# Altium footprint library Lib_PCB_IFOG_Interrogator.PcbLib: 31 footprints (part 1 of 2)
Each footprint in its own frame and in the unit in brackets; x right, y up, seen from the top. Pads: shape width x height; smd on the part's side, far side on the other; paste and mask are expansions set on the pad; w line width, h text height; cw(c..) or ccw(c..) is an arc to the next point about the centre after c.
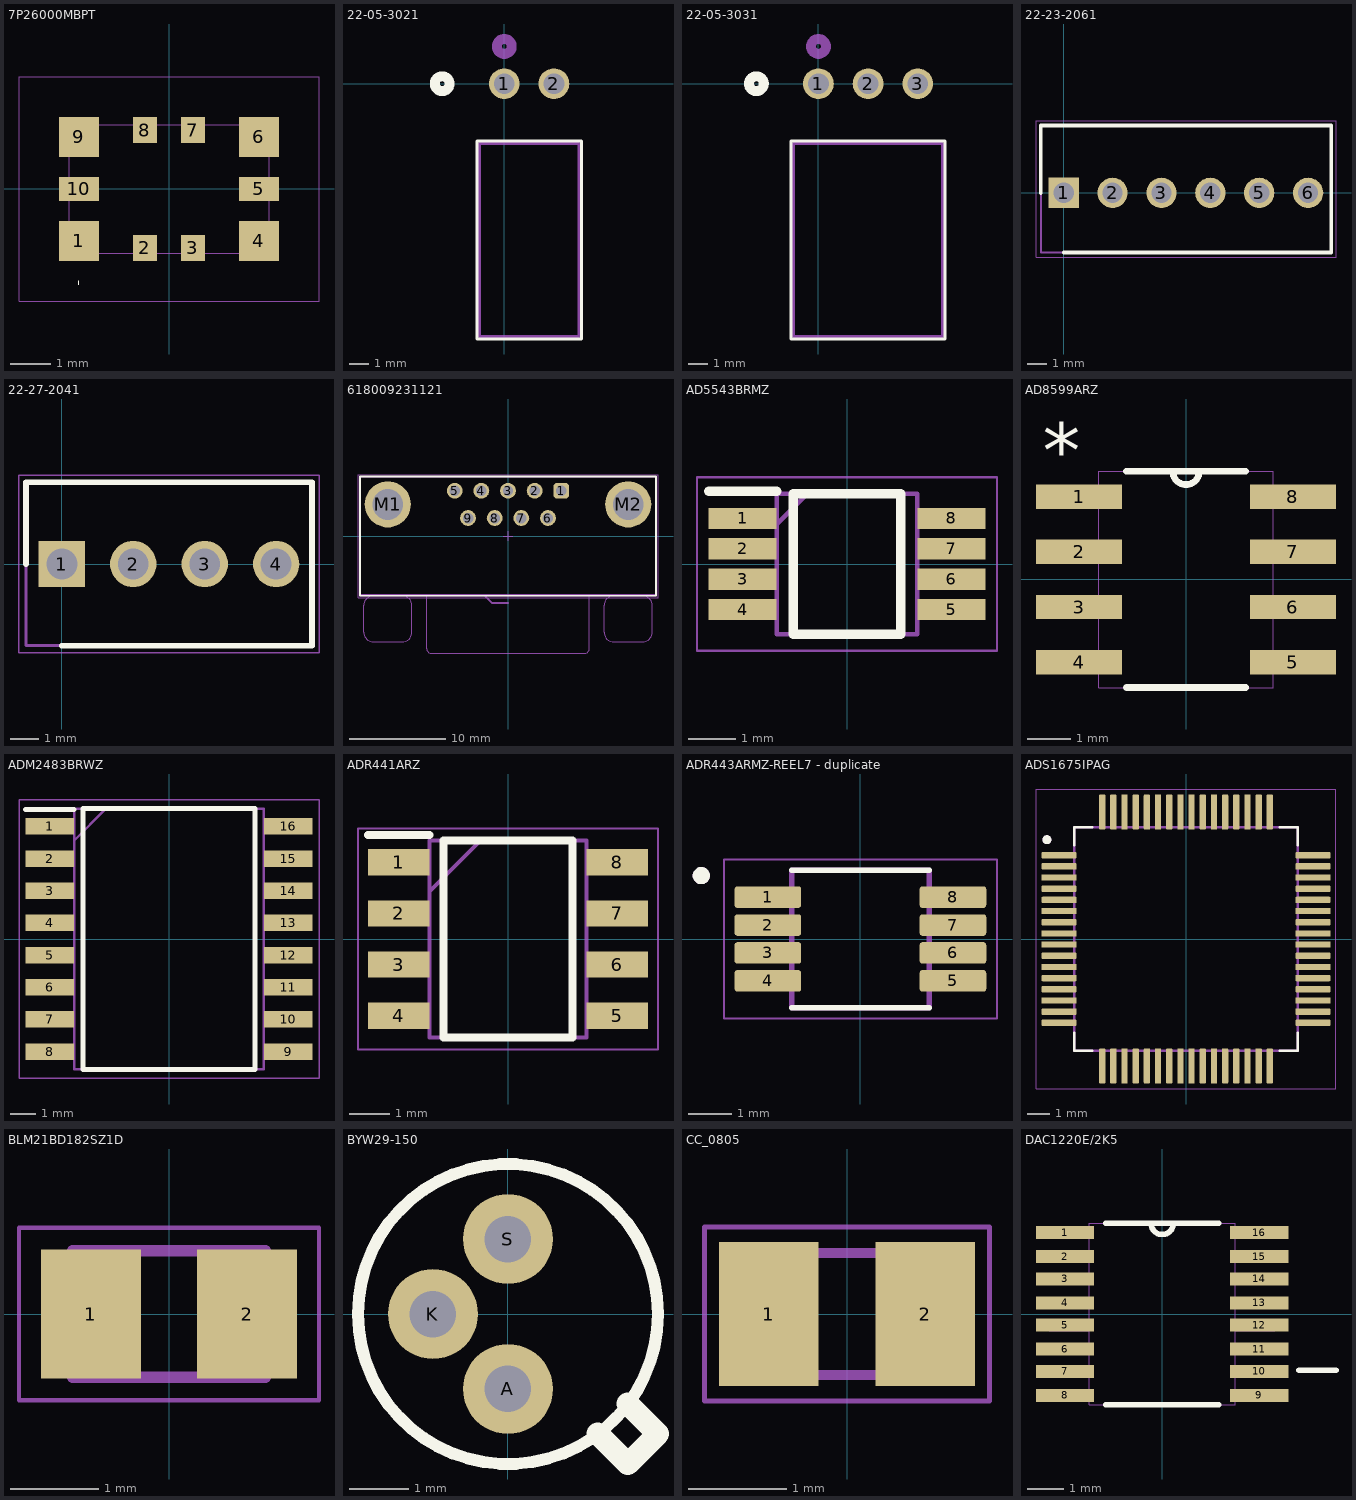
[diagram p0: the footprints below, top view; thin cyan lines are the x and y axes]

## 7P26000MBPT [mm]
pads (10):
  rect 1x1 smd paste+0 mask+0: 1(-2.25,-1.3) 4(2.25,-1.3) 6(2.25,1.3) 9(-2.25,1.3)
  rect 0.6x0.65 smd paste+0 mask+0: 2(-0.6,-1.475) 3(0.6,-1.475) 7(0.6,1.475) 8(-0.6,1.475)
  rect 1x0.6 smd paste+0 mask+0: 5(2.25,0) 10(-2.25,0)
Top Overlay:
  lines w0.025: -2.25,-2.4 -2.25,-2.3 -2.25,-2.4
  text ".Designator" at -2.129,-0.21 h0.42
Bottom Assembly:
  lines w0.025: -3.75,-2.8 -3.75,2.8 3.75,2.8 3.75,-2.8 -3.75,-2.8
Mechanical 4:
  lines w0.025: -2.5,-1.6 -2.5,1.6 2.5,1.6 2.5,-1.6 -2.5,-1.6
3D body "7P-26.000MBP-T.stp": height 2.2, standoff 0, extent -2.69,-1.74 2.69,1.74

## 22-05-3021 [mil]
pads (2):
  round 62 hole 42: 1(0,0) 2(100,0)
Top Overlay:
  lines w6: -55,-514 155,-514 155,-115 -55,-115 -55,-514
  lines w20: -140,0 ccw(c-125,0) -110,0 ccw(c-125,0) -140,0
Bottom Overlay:
  lines w20: -140,0 ccw(c-125,0) -110,0 ccw(c-125,0) -140,0
Mechanical 13:
  lines w6: -50,-509 150,-509 150,-120 -50,-120 -50,-509
  lines w20: -15,75 ccw(c0,75) 15,75 ccw(c0,75) -15,75
3D body "22-05-3021.stp": height 225, standoff -166, extent -62,-471.5 132,37.5

## 22-05-3031 [mil]
pads (3):
  round 62 hole 42: 1(0,0) 2(100,0) 3(200,0)
Top Overlay:
  lines w6: -55,-514 255,-514 255,-115 -55,-115 -55,-514
  lines w20: -140,0 ccw(c-125,0) -110,0 ccw(c-125,0) -140,0
Bottom Overlay:
  lines w20: -140,0 ccw(c-125,0) -110,0 ccw(c-125,0) -140,0
Mechanical 13:
  lines w6: -50,-509 250,-509 250,-120 -50,-120 -50,-509
  lines w20: -15,75 ccw(c0,75) 15,75 ccw(c0,75) -15,75
3D body "022053031.stp": height 225, standoff -166, extent -42,-496.5 252,12.5

## 22-23-2061 [mm]
pads (6):
  rect 1.575x1.575 / inner round 1.575 / far side rect 1.575x1.575 hole 1.05: 1(0,0)
  round 1.575 hole 1.05: 2(2.54,0) 3(5.08,0) 4(7.62,0) 5(10.16,0) 6(12.7,0)
Top Overlay:
  lines w0.2: -1.19,0 -1.19,3.5 13.9,3.5 13.9,-3.1 0,-3.1
Mechanical 15:
  lines w0.1: -1.19,-3.1 -1.19,3.5 13.9,3.5 13.9,-3.1 -1.19,-3.1
Mechanical 20:
  lines w0.05: -1.44,-3.35 -1.44,3.75 14.15,3.75 14.15,-3.35 -1.44,-3.35
3D body "22-23-2061.stp": height 10.73, standoff -3.49, extent -1.143,-3.302 13.945,3.048

## 22-27-2041 [mm]
pads (4):
  rect 1.65x1.65 / inner round 1.65 / far side rect 1.65x1.65 hole 1.1: 1(0,0)
  round 1.65 hole 1.1: 2(2.54,0) 3(5.08,0) 4(7.62,0)
Top Overlay:
  lines w0.2: -1.27,0 -1.27,2.9 8.89,2.9 8.89,-2.9 0,-2.9
Mechanical 15:
  lines w0.1: -1.27,-2.9 -1.27,2.9 8.89,2.9 8.89,-2.9 -1.27,-2.9
Mechanical 20:
  lines w0.05: -1.52,-3.15 -1.52,3.15 9.14,3.15 9.14,-3.15 -1.52,-3.15
3D body "22-27-2041.stp": height 11.77, standoff -3.49, extent -1.397,-2.879 8.763,2.921

## 618009231121 [mm] "9 pins, right angled, 8.08mm, with hex screw"
height 12.5
pads (11):
  rrect50% 1.65x1.65 hole 1.09: 1(5.54,4.72)
  round 1.65 hole 1.09: 2(2.77,4.72) 3(0,4.72) 4(-2.77,4.72) 5(-5.54,4.72) 6(4.155,1.88) 7(1.385,1.88) 8(-1.385,1.88) 9(-4.155,1.88)
  round 4.8 hole 3.2: M1(-12.5,3.3) M2(12.5,3.3)
Top Overlay:
  lines w0.2: -15.4,-6.2 -15.4,6.2 15.4,6.2 15.4,-6.2 -15.4,-6.2
Top Assembly:
  lines w0.1: -14,-6.2 ccw(c-14,-7.2) -15,-7.2 -15,-10 ccw(c-14,-10) -14,-11 -11,-11 ccw(c-11,-10) -10,-10 -10,-7.2 ccw(c-11,-7.2) -11,-6.2 ; -8.45,-6.2 -8.45,-11.7 ccw(c-7.95,-11.7) -7.95,-12.2 7.95,-12.2 ; 8.45,-6.2 8.45,-11.7 cw(c7.95,-11.7) 7.95,-12.2 ; 11,-6.2 ccw(c11,-7.2) 10,-7.2 10,-10 ccw(c11,-10) 11,-11 14,-11 ccw(c14,-10) 15,-10 15,-7.2 ccw(c14,-7.2) 14,-6.2 ; 7.95,-12.2 7.95,-12.2 ; -15.4,-6.2 15.4,-6.2 15.4,6.2 -15.4,6.2 -15.4,-6.2
Top Courtyard:
  lines w0.05: -15.6,-6.4 -15.6,6.4 15.6,6.4 15.6,-6.4 -15.6,-6.4
Assembly Notes:
  lines w0.2: -15.4,-6.12 15.4,-6.12 ; -2.5,-6.12 -1.67,-6.95 0,-6.95
  text "PCB Edge" at 0.4,-7.55 h1.02
Top Designator:
  text ".Designator" at -3.647,-0.357 h1
Top Component Center:
  lines w0.1: -0.5,0 0.5,0 ; 0,-0.5 0,0.5
3D body "618009231121.stp": height 12.55, standoff -3.95, extent -15.4,-12.2 15.4,6.2

## AD5543BRMZ [mm]
pads (8):
  rect 1.45x0.45 smd: 1(-2.225,0.975) 2(-2.225,0.325) 3(-2.225,-0.325) 4(-2.225,-0.975) 5(2.225,-0.975) 6(2.225,-0.325) 7(2.225,0.325) 8(2.225,0.975)
Top Overlay:
  lines w0.2: -2.95,1.55 -1.5,1.55 ; -1.15,-1.5 -1.15,1.5 1.15,1.5 1.15,-1.5 -1.15,-1.5
Mechanical 15:
  lines w0.1: -1.5,0.85 -0.85,1.5 ; -1.5,-1.5 -1.5,1.5 1.5,1.5 1.5,-1.5 -1.5,-1.5
Mechanical 20:
  lines w0.05: -3.2,-1.85 -3.2,1.85 3.2,1.85 3.2,-1.85 -3.2,-1.85
3D body "AD5543BRMZ.stp": height 0.96, standoff -0.04, extent -2.45,-1.5 2.45,1.5

## AD8599ARZ [mil]
pads (8):
  rect 78x22 smd: 1(-97,75) 2(-97,25) 3(-97,-25) 4(-97,-75) 5(97,-75) 6(97,-25) 7(97,25) 8(97,75)
Top Overlay:
  lines w6: -54,-98 54,-98 ; -54,98 -12,98 ; 54,98 12,98 ; -12,98 ccw(c0,98) 12,98 ; -12,98 12,98
  text "*" at -130,92 h50
Mechanical 13:
  lines w0: -12,98 ccw(c0,98) 12,98 ; -12,98 -79,98 -79,-98 79,-98 79,98 12,98 ; -12,98 12,98 ; -122,-85 -79,-85 -79,-65 -122,-65 -122,-85 ; -122,-35 -79,-35 -79,-15 -122,-15 -122,-35 ; -122,15 -79,15 -79,35 -122,35 -122,15 ; -122,65 -79,65 -79,85 -122,85 -122,65 ; 79,-85 122,-85 122,-65 79,-65 79,-85 ; 79,-35 122,-35 122,-15 79,-15 79,-35 ; 79,15 122,15 122,35 79,35 79,15 ; 79,65 122,65 122,85 79,85 79,65
  text "*" at -130,92 h50
3D body "step_temp.STEP": height 68.9, standoff 0, extent -118.11,-96.46 118.11,96.46

## ADM2483BRWZ [mm]
pads (16):
  rect 1.925x0.65 smd: 1(-4.712,4.445) 2(-4.712,3.175) 3(-4.712,1.905) 4(-4.712,0.635) 5(-4.712,-0.635) 6(-4.712,-1.905) 7(-4.712,-3.175) 8(-4.712,-4.445) 9(4.712,-4.445) 10(4.712,-3.175) 11(4.712,-1.905) 12(4.712,-0.635) 13(4.712,0.635) 14(4.712,1.905) 15(4.712,3.175) 16(4.712,4.445)
Top Overlay:
  lines w0.2: -5.675,5.12 -3.75,5.12 ; -3.4,-5.15 3.4,-5.15 3.4,5.15 -3.4,5.15 -3.4,-5.15
Mechanical 15:
  lines w0.1: -3.75,3.88 -2.48,5.15 ; -3.75,-5.15 3.75,-5.15 3.75,5.15 -3.75,5.15 -3.75,-5.15
Mechanical 20:
  lines w0.05: -5.925,-5.5 5.925,-5.5 5.925,5.5 -5.925,5.5 -5.925,-5.5
3D body "ADM2483BRWZ.stp": height 2.67, standoff 0.02, extent -5.198,-5.25 5.452,5.25

## ADR441ARZ [mm]
pads (8):
  rect 1.525x0.65 smd: 1(-2.712,1.905) 2(-2.712,0.635) 3(-2.712,-0.635) 4(-2.712,-1.905) 5(2.712,-1.905) 6(2.712,-0.635) 7(2.712,0.635) 8(2.712,1.905)
Top Overlay:
  lines w0.2: -3.475,2.58 -1.95,2.58 ; -1.6,-2.45 -1.6,2.45 1.6,2.45 1.6,-2.45 -1.6,-2.45
Mechanical 15:
  lines w0.1: -1.95,1.18 -0.68,2.45 ; -1.95,-2.45 -1.95,2.45 1.95,2.45 1.95,-2.45 -1.95,-2.45
Mechanical 20:
  lines w0.05: -3.725,-2.75 -3.725,2.75 3.725,2.75 3.725,-2.75 -3.725,-2.75
3D body "ADR441ARZ.stp": height 1.66, standoff -0.09, extent -2.846,-2.373 3.354,2.627

## ADR443ARMZ-REEL7 - duplicate [mm]
pads (8):
  rrect25% 1.55x0.5 smd: 1(-2.155,0.975) 2(-2.155,0.325) 3(-2.155,-0.325) 4(-2.155,-0.975) 5(2.155,-0.975) 6(2.155,-0.325) 7(2.155,0.325) 8(2.155,0.975)
Top Overlay:
  circle w0.2: c-3.705,1.475 r0.1
  lines w0.127: -1.6,-1.6 1.6,-1.6 ; -1.6,1.6 1.6,1.6
Mechanical 13:
  circle w0.2: c-3.705,1.475 r0.1
  lines w0.127: -1.6,-1.6 1.6,-1.6 1.6,1.6 -1.6,1.6 -1.6,-1.6
Mechanical 15:
  lines w0.05: -3.18,-1.85 3.18,-1.85 3.18,1.85 -3.18,1.85 -3.18,-1.85
3D body "step_temp.STEP": height 1.1, standoff 0, extent -2.45,-1.5 2.45,1.5

## ADS1675IPAG [mm]
pads (64):
  rrect25% 1.56x0.28 smd: 1(-5.68,3.75) 2(-5.68,3.25) 3(-5.68,2.75) 4(-5.68,2.25) 5(-5.68,1.75) 6(-5.68,1.25) 7(-5.68,0.75) 8(-5.68,0.25) 9(-5.68,-0.25) 10(-5.68,-0.75) 11(-5.68,-1.25) 12(-5.68,-1.75) 13(-5.68,-2.25) 14(-5.68,-2.75) 15(-5.68,-3.25) 16(-5.68,-3.75) 33(5.68,-3.75) 34(5.68,-3.25) 35(5.68,-2.75) 36(5.68,-2.25) 37(5.68,-1.75) 38(5.68,-1.25) 39(5.68,-0.75) 40(5.68,-0.25) 41(5.68,0.25) 42(5.68,0.75) 43(5.68,1.25) 44(5.68,1.75) 45(5.68,2.25) 46(5.68,2.75) 47(5.68,3.25) 48(5.68,3.75)
  rrect25% 0.28x1.56 smd: 17(-3.75,-5.68) 18(-3.25,-5.68) 19(-2.75,-5.68) 20(-2.25,-5.68) 21(-1.75,-5.68) 22(-1.25,-5.68) 23(-0.75,-5.68) 24(-0.25,-5.68) 25(0.25,-5.68) 26(0.75,-5.68) 27(1.25,-5.68) 28(1.75,-5.68) 29(2.25,-5.68) 30(2.75,-5.68) 31(3.25,-5.68) 32(3.75,-5.68) 49(3.75,5.68) 50(3.25,5.68) 51(2.75,5.68) 52(2.25,5.68) 53(1.75,5.68) 54(1.25,5.68) 55(0.75,5.68) 56(0.25,5.68) 57(-0.25,5.68) 58(-0.75,5.68) 59(-1.25,5.68) 60(-1.75,5.68) 61(-2.25,5.68) 62(-2.75,5.68) 63(-3.25,5.68) 64(-3.75,5.68)
Top Overlay:
  circle w0.2: c-6.223,4.445 r0.1
  lines w0.127: -5,-4.21 -5,-5 -4.21,-5 ; -5,4.21 -5,5 -4.21,5 ; 4.21,-5 5,-5 5,-4.21 ; 4.21,5 5,5 5,4.21
Mechanical 13:
  circle w0.2: c-6.223,4.445 r0.1
  lines w0.127: -5,-5 -5,5 5,5 5,-5 -5,-5
Mechanical 15:
  lines w0.05: -6.71,-6.71 -6.71,6.71 6.71,6.71 6.71,-6.71 -6.71,-6.71
3D body "step_temp.STEP": height 1.2, standoff 0, extent -6,-6 6,6

## BLM21BD182SZ1D [mm]
pads (2):
  rect 1.14x1.47 smd: 1(-0.89,0) 2(0.89,0)
Mechanical 13:
  lines w0.127: -1.1,-0.72 1.1,-0.72 1.1,0.72 -1.1,0.72 -1.1,-0.72
Mechanical 15:
  lines w0.05: -1.708,-0.983 1.708,-0.983 1.708,0.983 -1.708,0.983 -1.708,-0.983
3D body "BLM21BD182SZ1D.STEP": height 1.05, standoff 0, extent -1,-0.625 1,0.625

## BYW29-150 [mil]
pads (3):
  round 60 hole 31: A(0.12,-49.88) K(-49.88,0.12) S(0.12,50.12)
Top Overlay:
  circle w8: c0.12,0.12 r100
  lines w15: 60.12,-79.88 80.12,-99.88 100.12,-79.88 80.12,-59.88

## CC_0805 [mm]
pads (2):
  rect 1.02x1.47 smd: 1(-0.8,0) 2(0.8,0)
Mechanical 15:
  lines w0.1: -1,-0.625 -1,0.625 1,0.625 1,-0.625 -1,-0.625
Mechanical 20:
  lines w0.05: -1.46,-0.89 -1.46,0.89 1.46,0.89 1.46,-0.89 -1.46,-0.89
3D body "CC0805KRX5R6BB475.stp": height 0.7, standoff 0, extent -1,-0.625 1,0.625

## DAC1220E/2K5 [mil]
pads (16):
  rect 63x14 smd: 1(-105,88) 2(-105,62) 3(-105,38) 4(-105,12) 5(-105,-12) 6(-105,-38) 7(-105,-62) 8(-105,-88) 9(105,-88) 10(105,-62) 11(105,-38) 12(105,-12) 13(105,12) 14(105,38) 15(105,62) 16(105,88)
Top Overlay:
  lines w6: -61,-98 61,-98 ; -61,98 -12,98 ; 61,98 12,98 ; 148,-61 188,-61 ; -12,98 ccw(c0,98) 12,98 ; -12,98 12,98
Mechanical 13:
  lines w0: -12,98 ccw(c0,98) 12,98 ; -12,98 -79,98 -79,-98 79,-98 79,98 12,98 ; -12,98 12,98 ; -122,-93 -79,-93 -79,-82 -122,-82 -122,-93 ; -122,-68 -79,-68 -79,-57 -122,-57 -122,-68 ; -122,-43 -79,-43 -79,-32 -122,-32 -122,-43 ; -122,-18 -79,-18 -79,-7 -122,-7 -122,-18 ; -122,7 -79,7 -79,18 -122,18 -122,7 ; -122,32 -79,32 -79,43 -122,43 -122,32 ; -122,57 -79,57 -79,68 -122,68 -122,57 ; -122,82 -79,82 -79,93 -122,93 -122,82 ; 79,-93 122,-93 122,-82 79,-82 79,-93 ; 79,-68 122,-68 122,-57 79,-57 79,-68 ; 79,-43 122,-43 122,-32 79,-32 79,-43 ; 79,-18 122,-18 122,-7 79,-7 79,-18 ; 79,7 122,7 122,18 79,18 79,7 ; 79,32 122,32 122,43 79,43 79,32 ; 79,57 122,57 122,68 79,68 79,57 ; 79,82 122,82 122,93 79,93 79,82
3D body "DAC1220E_2K5.STEP": height 69, standoff 0, extent -113,-96.5 123,96.5